# EAGLE library part TEXAS_INSTRUMENTS_TPA6112A2DGQR (library stopwatch)
TI-TPA6112A2DGQ10-1675X1445TP
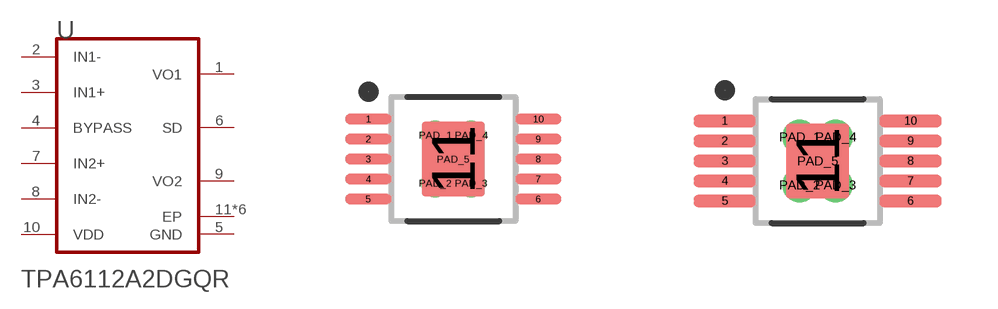
[diagram p9: symbol with the pads of TEXAS_INSTRUMENTS_TPA6112A2DGQR_0; footprints TEXAS_INSTRUMENTS_TPA6112A2DGQR_0, TEXAS_INSTRUMENTS_TPA6112A2DGQR_1]

Designator prefix U

## TEXAS_INSTRUMENTS_TPA6112A2DGQRTEXAS_INSTRUMENTS_TPA6112A2DGQR_0_0 (CODE__JEDEC: MO-187; COMPONENT_LINK_1_DESCRIPTION: Manufacturer URL; COMPONENT_LINK_1_URL: http://www.ti.com/; COMPONENT_LINK_3_DESCRIPTION: Package Specification; COMPONENT_LINK_3_URL: http://www.ti.com/litv/pdf/mpds043e; DATASHEET: http://www.ti.com/general/docs/lit/getliterature.tsp?genericPartNumber=TPA6112A2&fileType=pdf; DATASHEET_VERSION: SLOS342A; HEADPHONE_CHANNELS: Stereo; IMPORTED: yes; IMPORTED_FROM: vault; IMPORT_TS: 1521177440; ISDU_A: 10; LOAD_MINOHMS: 16; MF: Texas Instruments; MOUNTING_TECHNOLOGY: Surface Mount; MPN: TPA6112A2DGQR; OUTPUT_POWERW: 0.15; PACKAGE: DGQ0010D; PACKAGE_DESCRIPTION: 10-Pin Plastic Small Outline, Body 3 x 3 mm, Pitch 0.5 mm; PACKAGE_VERSION: 4073273/F, 11/2011; PREFIX: U; PSRRD_B: 83; ROHS: Yes; SUB_FAMILY: Headphone Amplifier; SUPPLY_MAXMAXVOLT: 5.5; SUPPLY_MINMINVOLT: 2.5; VAULT_GUID: 70D2BD34-084B-40BF-BB84-4C6E0342D994; VAULT_REVISION: FDDC8DA6-F7B9-4280-AF7D-FFDA60018878)  [TEXAS_INSTRUMENTS_TPA6112A2DGQR_0]
1  VO1  out
2  IN1-  in
3  IN1+  in
4  BYPASS  in
5  GND  pwr
6  SD  in
7  IN2+  in
8  IN2-  in
9  VO2  out
10  VDD  pwr
11  EP
PAD_1  EP
PAD_2  EP
PAD_3  EP
PAD_4  EP
PAD_5  EP

## TEXAS_INSTRUMENTS_TPA6112A2DGQRTEXAS_INSTRUMENTS_TPA6112A2DGQR_0_1 (CODE__JEDEC: MO-187; COMPONENT_LINK_1_DESCRIPTION: Manufacturer URL; COMPONENT_LINK_1_URL: http://www.ti.com/; COMPONENT_LINK_3_DESCRIPTION: Package Specification; COMPONENT_LINK_3_URL: http://www.ti.com/litv/pdf/mpds043e; DATASHEET: http://www.ti.com/general/docs/lit/getliterature.tsp?genericPartNumber=TPA6112A2&fileType=pdf; DATASHEET_VERSION: SLOS342A; HEADPHONE_CHANNELS: Stereo; IMPORTED: yes; IMPORTED_FROM: vault; IMPORT_TS: 1521177440; ISDU_A: 10; LOAD_MINOHMS: 16; MF: Texas Instruments; MOUNTING_TECHNOLOGY: Surface Mount; MPN: TPA6112A2DGQR; OUTPUT_POWERW: 0.15; PACKAGE: DGQ0010D; PACKAGE_DESCRIPTION: 10-Pin Plastic Small Outline, Body 3 x 3 mm, Pitch 0.5 mm; PACKAGE_VERSION: 4073273/F, 11/2011; PREFIX: U; PSRRD_B: 83; ROHS: Yes; SUB_FAMILY: Headphone Amplifier; SUPPLY_MAXMAXVOLT: 5.5; SUPPLY_MINMINVOLT: 2.5; VAULT_GUID: 70D2BD34-084B-40BF-BB84-4C6E0342D994; VAULT_REVISION: FDDC8DA6-F7B9-4280-AF7D-FFDA60018878)  [TEXAS_INSTRUMENTS_TPA6112A2DGQR_1]
Pads as for TEXAS_INSTRUMENTS_TPA6112A2DGQR_0

## TEXAS_INSTRUMENTS_TPA6112A2DGQRTEXAS_INSTRUMENTS_TPA6112A2DGQR_0_2 (CODE__JEDEC: MO-187; COMPONENT_LINK_1_DESCRIPTION: Manufacturer URL; COMPONENT_LINK_1_URL: http://www.ti.com/; COMPONENT_LINK_3_DESCRIPTION: Package Specification; COMPONENT_LINK_3_URL: http://www.ti.com/litv/pdf/mpds043e; DATASHEET: http://www.ti.com/general/docs/lit/getliterature.tsp?genericPartNumber=TPA6112A2&fileType=pdf; DATASHEET_VERSION: SLOS342A; HEADPHONE_CHANNELS: Stereo; IMPORTED: yes; IMPORTED_FROM: vault; IMPORT_TS: 1521177440; ISDU_A: 10; LOAD_MINOHMS: 16; MF: Texas Instruments; MOUNTING_TECHNOLOGY: Surface Mount; MPN: TPA6112A2DGQR; OUTPUT_POWERW: 0.15; PACKAGE: DGQ0010D; PACKAGE_DESCRIPTION: 10-Pin Plastic Small Outline, Body 3 x 3 mm, Pitch 0.5 mm; PACKAGE_VERSION: 4073273/F, 11/2011; PREFIX: U; PSRRD_B: 83; ROHS: Yes; SUB_FAMILY: Headphone Amplifier; SUPPLY_MAXMAXVOLT: 5.5; SUPPLY_MINMINVOLT: 2.5; VAULT_GUID: 70D2BD34-084B-40BF-BB84-4C6E0342D994; VAULT_REVISION: FDDC8DA6-F7B9-4280-AF7D-FFDA60018878)  [TEXAS_INSTRUMENTS_TPA6112A2DGQR_2]
Pads as for TEXAS_INSTRUMENTS_TPA6112A2DGQR_0

## Footprint TEXAS_INSTRUMENTS_TPA6112A2DGQR_0 (pad centres in mm)
TI-TPA6112A2DGQ10-1675X1445TP
smd 1.15 x 0.25: 1 -2.125,1; 2 -2.125,0.5; 3 -2.125,0; 4 -2.125,-0.5; 5 -2.125,-1; 6 2.125,-1; 7 2.125,-0.5; 8 2.125,0; 9 2.125,0.5; 10 2.125,1
smd 1.57 x 1.88: 11 0,0
drill 0.2 pad 0.5: PAD_1 -0.45,0.6; PAD_2 -0.45,-0.6; PAD_3 0.45,-0.6; PAD_4 0.45,0.6; PAD_5 0,0

## Footprint TEXAS_INSTRUMENTS_TPA6112A2DGQR_1 (pad centres in mm)
TI-TPA6112A2DGQ10-1675X1445TP
smd 1.55 x 0.3: 1 -2.325,1; 2 -2.325,0.5; 3 -2.325,0; 4 -2.325,-0.5; 5 -2.325,-1; 6 2.325,-1; 7 2.325,-0.5; 8 2.325,0; 9 2.325,0.5; 10 2.325,1
smd 1.57 x 1.88: 11 0,0
drill 0.35 pad 0.5: PAD_1 -0.45,0.6; PAD_2 -0.45,-0.6; PAD_3 0.45,-0.6; PAD_4 0.45,0.6; PAD_5 0,0

## Footprint TEXAS_INSTRUMENTS_TPA6112A2DGQR_2 (pad centres in mm)
TI-TPA6112A2DGQ10-1675X1445TP
smd 1.35 x 0.3: 1 -2.225,1; 2 -2.225,0.5; 3 -2.225,0; 4 -2.225,-0.5; 5 -2.225,-1; 6 2.225,-1; 7 2.225,-0.5; 8 2.225,0; 9 2.225,0.5; 10 2.225,1
smd 1.57 x 1.88: 11 0,0
drill 0.2 pad 0.5: PAD_1 -0.45,0.6; PAD_2 -0.45,-0.6; PAD_3 0.45,-0.6; PAD_4 0.45,0.6; PAD_5 0,0